# Altium schematic symbol library SCH - POWER - SWITCHMODE - TI TPS61175_PWP_14.SchLib: 1 symbol
Pins are listed as number, name and electrical type; pins without a type are passive.

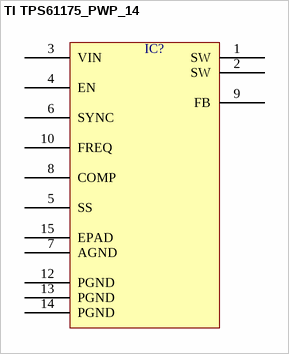
[diagram p0: symbol TI TPS61175_PWP_14]

## TI TPS61175_PWP_14
designator IC?  (value not drawn)
pins: 1 SW, 2 SW, 3 VIN, 4 EN, 5 SS, 6 SYNC, 7 AGND, 8 COMP, 9 FB, 10 FREQ, 12 PGND, 13 PGND, 14 PGND, 15 EPAD